# EAGLE library part NCP189CMTW330TAG (library NCP189CMTW330TAG)
1.6V to 5.5V input voltage; Output voltage from 0.6V; Controlled output voltage slew rate; PSRR: 85 dB at 1 kHz; Low dropout 65mV ar 3.3V / 500mA; Ultra-Low Noise: 10VRMS; WDFNW6 2 x 2mm Source: Datasheet <https://www.onsemi.com/pub/Collateral/NCP189-D.PDF>
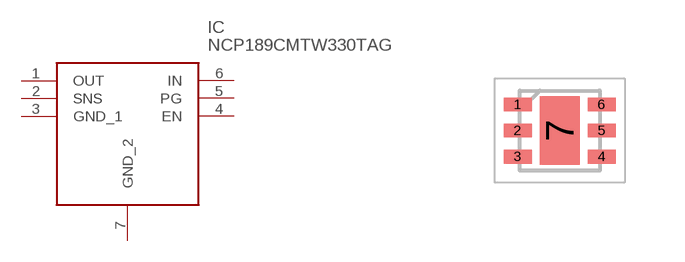
[diagram p0: symbol with the pads of SON65P200X200X80-7N; footprint SON65P200X200X80-7N]

Designator prefix IC

## NCP189CMTW330TAG (Description: 1.6V to 5.5V input voltage; Output voltage from 0.6V; Controlled output voltage slew rate; PSRR: 85 dB at 1 kHz; Low dropout 65mV ar 3.3V / 500mA; Ultra-Low Noise: 10VRMS; WDFNW6 2 x 2mm; Height: 0.8mm; Manufacturer_Name: onsemi; Manufacturer_Part_Number: NCP189CMTW330TAG; Mouser_Part_Number: 863-NCP189CMTW330TAG; Mouser_Price-Stock: https://www.mouser.co.uk/ProductDetail/onsemi/NCP189CMTW330TAG?qs=vvQtp7zwQdPaFxDy4thwxQ%3D%3D)  [SON65P200X200X80-7N]
1  OUT
2  SNS
3  GND_1
4  EN
5  PG
6  IN
7  GND_2

## Footprint SON65P200X200X80-7N (pad centres in mm)
WDFNW6 2x2, 0.65P CASE 511DW ISSUE B_2022
smd 0.7 x 0.35: 1 -1.05,0.65; 2 -1.05,0; 3 -1.05,-0.65; 4 1.05,-0.65; 5 1.05,0; 6 1.05,0.65
smd 1 x 1.7: 7 0,0